# Altium schematic symbol library Oscillator.SchLib: 1 symbol
Pins are listed as number, name and electrical type; pins without a type are passive.

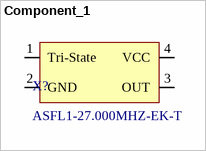
[diagram p0: symbol Component_1]

## Component_1
designator X?, comment ASFL1-27.000MHZ-EK-T
footprint Oscillator
pins: 1 Tri-State, 2 GND, 3 OUT, 4 VCC